# Altium footprint library pushButton_6mm.PcbLib: 1 footprints
Each footprint in its own frame and in the unit in brackets; x right, y up, seen from the top. Pads: shape width x height; smd on the part's side, far side on the other; paste and mask are expansions set on the pad; w line width, h text height; cw(c..) or ccw(c..) is an arc to the next point about the centre after c.
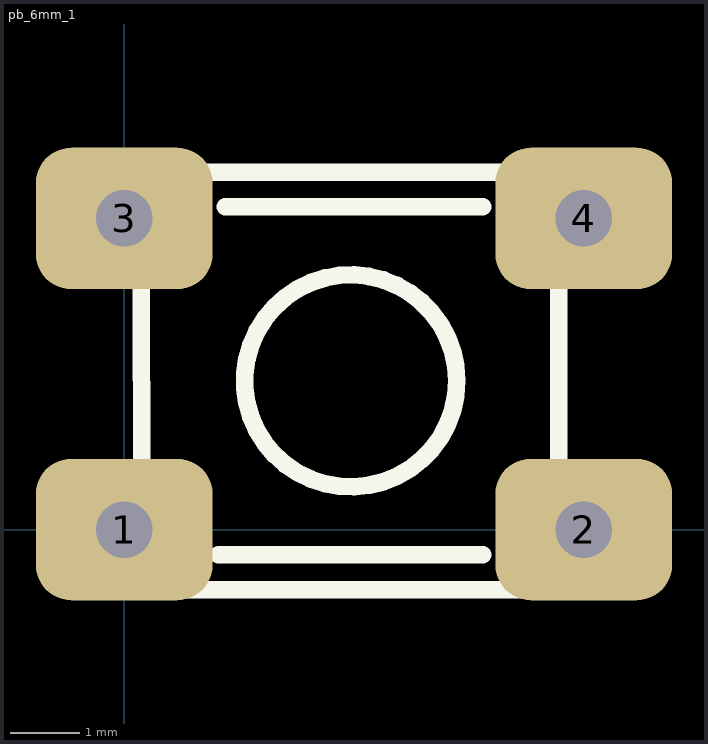
[diagram p0: the footprint, top view; thin cyan lines are the x and y axes]

## pb_6mm_1 [mil]
pads (4):
  rrect50% 100x80 hole 32: 1(0,0) 2(260,0) 3(0,176) 4(260,176)
Top Overlay:
  circle w10: c128.11,84.11 r60
  lines w10: 53.31,-14.31 202.91,-14.31 ; 57.24,182.54 202.91,182.54 ; 9.69,202.22 245.91,202.22 245.91,-34 10,-34 9.69,202.22
3D body: height 374.02, standoff -137.8, extent -33.3,-30.22 290,206